# EAGLE library part TI_LAUNCHPAD (library PP_DigitalIC)
Manufacturer Part #: TI LaunchPad Socket Manufacturer: Texas Instruments Description: Device to embedded a TI Launch Pad into a project
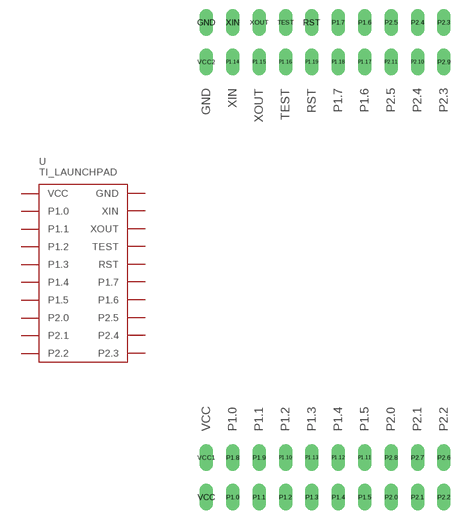
[diagram p2: symbol with the pads of TI_LAUNCHPAD; footprint TI_LAUNCHPAD]

Designator prefix U

## TI_LAUNCHPAD  [TI_LAUNCHPAD]
GND  GND
P1.0  P1.0
P1.1  P1.1
P1.2  P1.2
P1.3  P1.3
P1.4  P1.4
P1.5  P1.5
P1.6  P1.6
P1.7  P1.7
P2.0  P2.0
P2.1  P2.1
P2.2  P2.2
P2.3  P2.3
P2.4  P2.4
P2.5  P2.5
RST  RST
TEST  TEST
VCC  VCC
XIN  XIN
XOUT  XOUT

## Footprint TI_LAUNCHPAD (pad centres in mm)
drill 0.8 long: GND -3.81,22.86; P1.0 -1.27,-22.86; P1.1 1.27,-22.86; P1.2 3.81,-22.86; P1.3 6.35,-22.86; P1.4 8.89,-22.86; P1.5 11.43,-22.86; P1.6 11.43,22.86; P1.7 8.89,22.86; P1.8 -1.27,-19.05; P1.9 1.27,-19.05; P1.10 3.81,-19.05; P1.11 11.43,-19.05; P1.12 8.89,-19.05; P1.13 6.35,-19.05; P1.14 -1.27,19.05; P1.15 1.27,19.05; P1.16 3.81,19.05; P1.17 11.43,19.05; P1.18 8.89,19.05; P1.19 6.35,19.05; P2.0 13.97,-22.86; P2.1 16.51,-22.86; P2.2 19.05,-22.86; P2.3 19.05,22.86; P2.4 16.51,22.86; P2.5 13.97,22.86; P2.6 19.05,-19.05; P2.7 16.51,-19.05; P2.8 13.97,-19.05; P2.9 19.05,19.05; P2.10 16.51,19.05; P2.11 13.97,19.05; RST 6.35,22.86; TEST 3.81,22.86; VCC -3.81,-22.86; VCC1 -3.81,-19.05; VCC2 -3.81,19.05; XIN -1.27,22.86; XOUT 1.27,22.86